# Altium schematic symbol library TB006-508-06BE.SchLib: 1 symbol
Pins are listed as number, name and electrical type; pins without a type are passive.

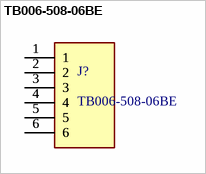
[diagram p0: symbol TB006-508-06BE]

## TB006-508-06BE
designator J?
TERMINAL BLOCK, SCREW TYPE, 5.08
footprint TB006-508-06BE
pins: 1, 1, 2, 2, 3, 3, 4, 4, 5, 5, 6, 6